# Altium schematic symbol library ZVN4206ASTZ.SchLib: 1 symbol
Pins are listed as number, name and electrical type; pins without a type are passive.

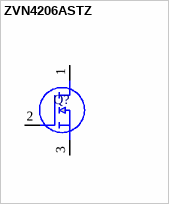
[diagram p0: symbol ZVN4206ASTZ]

## ZVN4206ASTZ
designator Q?
N-Channel 60 V 600mA (Ta) 700mW (Ta) Through Hole E-Line (TO-92 compatible); Manufacturer_Name: Diodes Inc.; Geometry.Height: 4.01mm; Manufacturer_Part_Number: ZVN4206ASTZ; Mouser Part Number: 522-ZVN4206ASTZ; Mouser Price/Stock: https://www.mouser.co.uk/ProductDetail/Diodes-Incorporated/ZVN4206ASTZ?qs=OlC7AqGiEDlGIiNe7stL%252BQ%3D%3D; Arrow Part Number: ZVN4206ASTZ; Arrow Price/Stock: https://www.arrow.com/en/products/zvn4206astz/diodes-incorporated?region=nac; Mouser Testing Part Number: *; Mouser Testing Price/Stock: *; Datasheet Link: https://www.diodes.com/assets/Datasheets/ZVN4206A.pdf
footprint ZVN4206ASTZ
pins: 1 D, 2 G, 3 S